# EAGLE library part XFMR_7508112110 (library wheat)
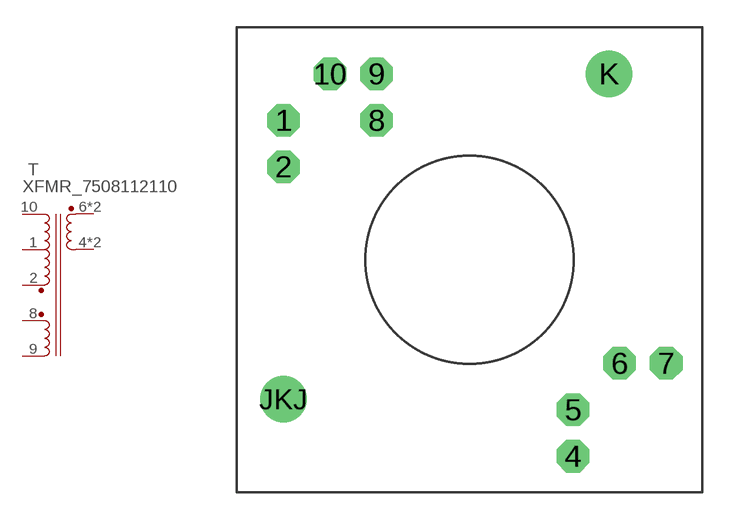
[diagram p283: symbol with the pads of XFMR_7508112110; footprint XFMR_7508112110]

Designator prefix T

## XFMR_7508112110  [XFMR_7508112110]
1  PRICT  pas
2  PRIP  pas
4  SECN  pas
5  SECN  pas
6  SECP  pas
7  SECP  pas
8  AUXP  pas
9  AUXN  pas
10  PRIN  pas

## Footprint XFMR_7508112110 (pad centres in mm)
drill 1.067 pad 1.778 octagon: 1 -10.16,7.62; 2 -10.16,5.08; 4 5.664,-10.744; 5 5.664,-8.204; 6 8.204,-5.664; 7 10.744,-5.664; 8 -5.08,7.62; 9 -5.08,10.16; 10 -7.62,10.16
drill 1.245 pad 2.54: JKJ -10.16,-7.62; K 7.62,10.16